# EAGLE library part LM629 (library lm2576)
Precision Motion Controller Motion controller takes position/velocity/acceleration input profiles and controls PWM sign/mag motor driver with quadrature encoder feedback. Temp range -40 to 85 C
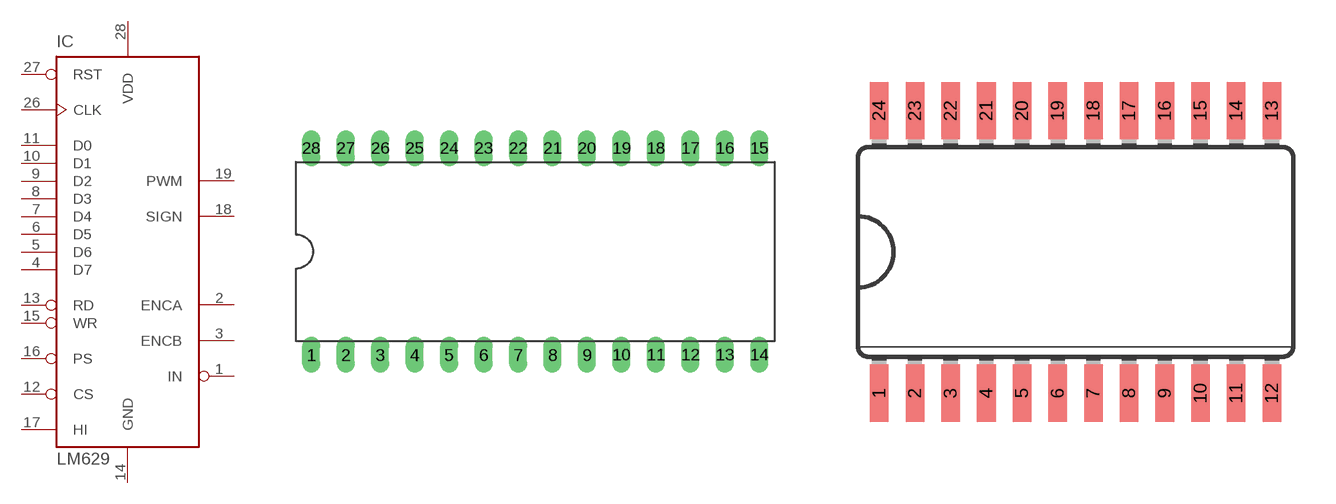
[diagram p1: symbol with the pads of DIL28-6; footprints DIL28-6, SO24L]

Designator prefix IC

## LM629N  [DIL28-6]
1  IN  in
2  ENCA  in
3  ENCB  in
4  D7
5  D6
6  D5
7  D4
8  D3
9  D2
10  D1
11  D0
12  CS  in
13  RD  in
14  GND  pwr
15  WR  in
16  PS  in
17  HI  out
18  SIGN  out
19  PWM  out
26  CLK  in
27  RST  in
28  VDD  pwr

## LM629M  [SO24L]
2  D2
3  D1
4  D0
5  CS  in
6  RD  in
7  GND  pwr
8  WR  in
9  PS  in
10  HI  out
11  SIGN  out
13  PWM  out
14  CLK  in
15  RST  in
16  VDD  pwr
17  IN  in
18  ENCA  in
19  ENCB  in
20  D7
21  D6
22  D5
23  D4
24  D3

## Footprint DIL28-6 (pad centres in mm)
28-pin Dual Inline Package, 0.6" row spacing
drill 0.813 long: 1 -16.51,-7.62; 2 -13.97,-7.62; 3 -11.43,-7.62; 4 -8.89,-7.62; 5 -6.35,-7.62; 6 -3.81,-7.62; 7 -1.27,-7.62; 8 1.27,-7.62; 9 3.81,-7.62; 10 6.35,-7.62; 11 8.89,-7.62; 12 11.43,-7.62; 13 13.97,-7.62; 14 16.51,-7.62; 15 16.51,7.62; 16 13.97,7.62; 17 11.43,7.62; 18 8.89,7.62; 19 6.35,7.62; 20 3.81,7.62; 21 1.27,7.62; 22 -1.27,7.62; 23 -3.81,7.62; 24 -6.35,7.62; 25 -8.89,7.62; 26 -11.43,7.62; 27 -13.97,7.62; 28 -16.51,7.62

## Footprint SO24L (pad centres in mm)
24-pin Small Outline Package, wide
smd 0.66 x 2.032: 1 -6.985,-5.029; 2 -5.715,-5.029; 3 -4.445,-5.029; 4 -3.175,-5.029; 5 -1.905,-5.029; 6 -0.635,-5.029; 7 0.635,-5.029; 8 1.905,-5.029; 9 3.175,-5.029; 10 4.445,-5.029; 11 5.715,-5.029; 12 6.985,-5.029; 13 6.985,5.029; 14 5.715,5.029; 15 4.445,5.029; 16 3.175,5.029; 17 1.905,5.029; 18 0.635,5.029; 19 -0.635,5.029; 20 -1.905,5.029; 21 -3.175,5.029; 22 -4.445,5.029; 23 -5.715,5.029; 24 -6.985,5.029